# Altium schematic symbol library Schlib2.SchLib: 30 symbols
Pins are listed as number, name and electrical type; pins without a type are passive.

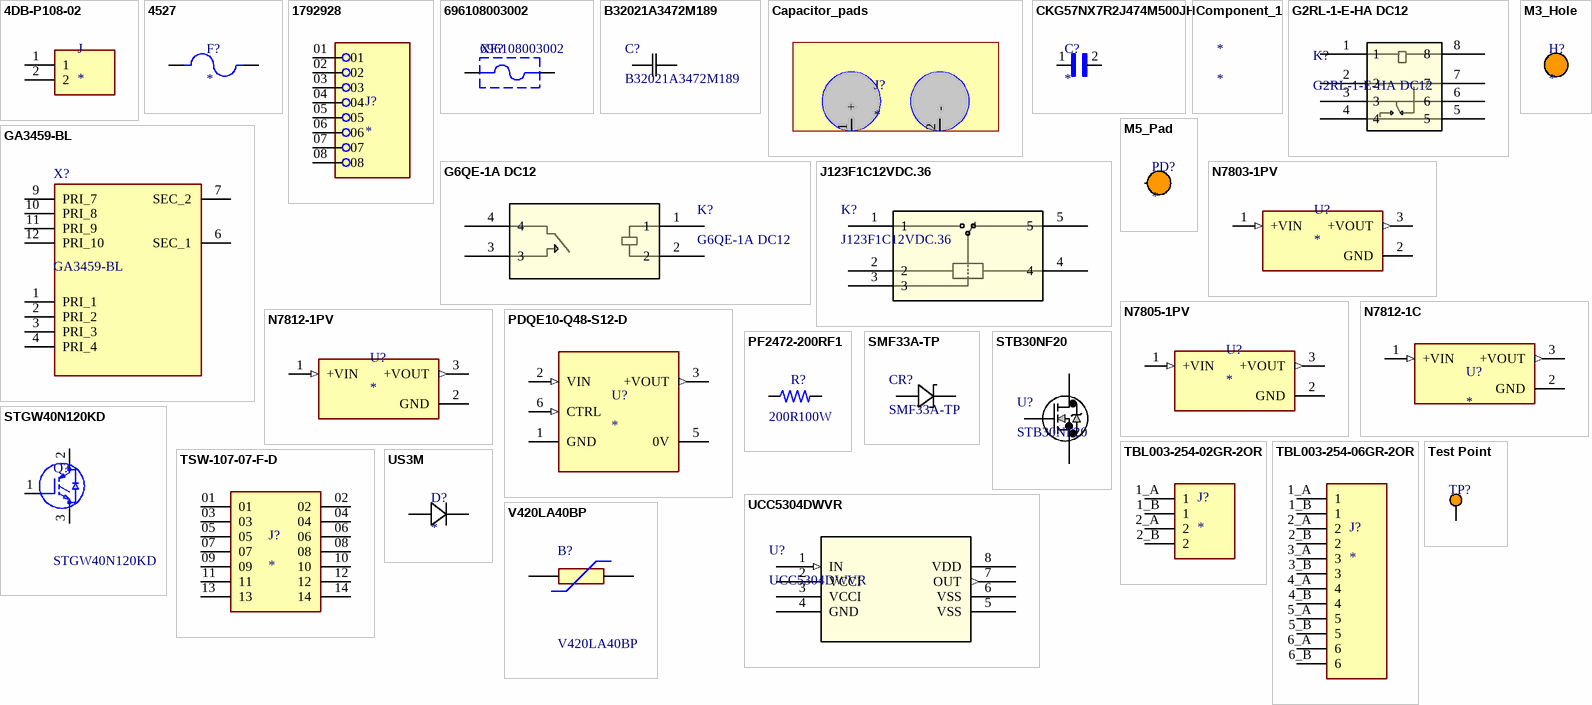
[diagram p0: symbols 4DB-P108-02 to V420LA40BP]

## 4DB-P108-02
designator J
Conn; Term Strip; Barrier; 2Pole; 8.26mmPitch; SnglRow; 22-12; Series 4DB; 20A; 150V; MP: 4DB-P108-02; MF: TE Connectivity; Value: *; TE_purchase_URL: https://www.te.com/usa-en/product-2-1437667-4.html?te_bu=Cor&te_type=disp&te_campaign=seda_glo_cor-seda-global-disp-prtnr-fy19-seda-model-bom-cta_sma-317_1&elqCampaignId=32493; Package: None; Price: None; Availability: Unavailable; SnapEDA_Link: https://www.snapeda.com/parts/4DB-P108-02/TE%20Connectivity%20AMP%20Connectors/view-part/2743721/?ref=snap
footprint TE_2-1437667-4
pins: 1, 2

## 4527
designator F?
5mm Low Profile Holder; MP: 4527; MF: Keystone; Price: None; Purchase-URL: https://pricing.snapeda.com/search/part/4527/?ref=eda; Package: None; Availability: In Stock; SnapEDA_Link: https://www.snapeda.com/parts/4527/Keystone+Electronics/view-part/?ref=snap; Value: *; Check_prices: https://www.snapeda.com/parts/4527/Keystone+Electronics/view-part/?ref=eda
footprint FUSE_4527
pins: 1, 2

## 1792928
designator J?
MP: 1792928; Package: None; Price: None; Value: *; Availability: Unavailable
footprint PHOENIX_1792928
pins: 01, 02, 03, 04, 05, 06, 07, 08

## 696108003002
designator XF?
NexarPartId: 56808807; Voltage Rating (AC): 250V; Fuse Current: 10A; REACH SVHC: Unknown; RoHS: Non-Compliant; Mount: Through Hole; Packaging: Box
footprint 696108003002 (FUSEHOLDER BLOCKS - PCB - CLIP COVER - THT)
pins: 1, 2

## B32021A3472M189
designator C?
No Description Available; Manufacturer_Name: TDK Epcos; Copyright: Copyright (C) 2025 Ultra Librarian. All rights reserved.; Manufacturer_Part_Number: B32021A3472M189
footprint CAP_5.0 X 11.0 X 13.0_EPC
pins: 1, 2

## Capacitor_pads
designator J?
footprint Capacitor_pads
pins: 1 +, 2 -

## CKG57NX7R2J474M500JH
designator C?
0.47ÂµF Â±20% 630V Ceramic Capacitor X7R Stacked SMD, 2 J-Lead; Value: 0.47uF; MF: TDK; MP: CKG57NX7R2J474M500JH; Price: None; Purchase-URL: https://pricing.snapeda.com/search/part/CKG57NX7R2J474M500JH/?ref=eda; Check_prices: https://www.snapeda.com/parts/CKG57NX7R2J474M500JH/TDK/view-part/?ref=eda; Package: 6050 TDK; Availability: In Stock; SnapEDA_Link: https://www.snapeda.com/parts/CKG57NX7R2J474M500JH/TDK/view-part/?ref=snap; voltage: 630V
footprint CAPC6050X550N
pins: 1, 2

## Component_1
designator *

## G2RL-1-E-HA DC12
designator K?
No Description Available; Manufacturer_Name: Omron; Copyright: Copyright (C) 2025 Ultra Librarian. All rights reserved.; Manufacturer_Part_Number: G2RL-1-E-HA DC12; RefDes: RefDes; Type: Type
footprint RELAY_G2RL-1-E DC5_OMR
pins: 1, 2, 3, 4, 5, 6, 7, 8

## G6QE-1A DC12
designator K?
No Description Available; Manufacturer_Name: Omron; Copyright: Copyright (C) 2025 Ultra Librarian. All rights reserved.; Manufacturer_Part_Number: G6QE-1A DC12; RefDes: RefDes; Type: Type
footprint RELAY_G6QE-1A_OMR
pins: 1, 2, 3, 4

## GA3459-BL
designator X?
Audio Transformers / Signal Transformers GA3459 for LT3751 500V 20A; Manufacturer_Name: COILCRAFT; Geometry.Height: 14mm; Mouser Part Number: 994-GA3459-BL; Mouser Price/Stock: https://www.mouser.co.uk/ProductDetail/Coilcraft/GA3459-BL?qs=ZYnrCdKdyecGrzi6ofbvIw%3D%3D; Manufacturer_Part_Number: GA3459-BL; Datasheet Link: https://www.coilcraft.com/pdfs/ga3459.pdf
footprint GA3459BL
pins: 1 PRI_1, 2 PRI_2, 3 PRI_3, 4 PRI_4, 6 SEC_1, 7 SEC_2, 9 PRI_7, 10 PRI_8, 11 PRI_9, 12 PRI_10

## J123F1C12VDC.36
designator K?
No Description Available; Manufacturer_Name: CIT Relay & Switch; Type: Power Relays; Copyright: Copyright (C) 2025 Ultra Librarian. All rights reserved.; Manufacturer_Part_Number: J123F1C12VDC.36; RefDes: RefDes
footprint RELAY5_J123F1C5VDC.36_CRS
pins: 1, 2, 3, 4, 5

## M3_Hole
designator H?
footprint M3_Hole

## M5_Pad
designator PD?
footprint M5_Pad
pins: 1

## N7803-1PV
designator U?
Dc-Dc Converter, 3.3V, 1A Rohs Compliant: Yes; Manufacturer: Mean Well; Manufacturer Part Number: N7803-1PV; Supplier: Mouser; Supplier Part Number: 709-N7803-1PV; RoHS: No; Category: Power Products; Stock: 21; Pricing: 1=3.94, 10=3.88, 50=3.88, 100=3.23, 1000=3.12, 10000=2.92 (USD); ComponentLink1URL: https://datasheet.octopart.com/N7803-1PV-Mean-Well-datasheet-155797355.pdf?src-supplier=TME; ComponentLink1Description: https://datasheet.octopart.com/N7803-1PV-Mean-Well-datasheet-155797355.pdf?src-supplier=TME
footprint CONV_TSR_1-2433
pins: 1 +VIN (in), 2 GND (power), 3 +VOUT (out)

## N7805-1PV
designator U?
Dc-Dc Converter, 5V, 1A Rohs Compliant: Yes; Manufacturer: Mean Well; Manufacturer Part Number: N7805-1PV; Supplier: Mouser; Supplier Part Number: 709-N7805-1PV; RoHS: No; Category: Power Products; Stock: 204; Pricing: 1=3.29, 10=3.23, 50=3.23, 100=3.19, 1000=2.98, 10000=2.66 (USD); ComponentLink1URL: https://datasheet.octopart.com/N7805-1PV-Mean-Well-datasheet-155797355.pdf?src-supplier=TME; ComponentLink1Description: https://datasheet.octopart.com/N7805-1PV-Mean-Well-datasheet-155797355.pdf?src-supplier=TME
footprint CONV_TSR_1-2433
pins: 1 +VIN (in), 2 GND (power), 3 +VOUT (out)

## N7812-1C
designator U?
DC-DC Converter, Switching Regulator, +-12Vout, 1A, Casing, N78 Series | MEAN WELL N7812-1C; Supplier: Mouser; Supplier Part Number: 709-N7812-1C; Manufacturer: Mean Well; Manufacturer Part Number: N7812-1C; RoHS: No; Stock: 2145; Pricing: 1=3.6, 10=3.6, 50=3.6, 100=3.6, 1000=3.18, 10000=3.08 (USD); ComponentLink1URL: https://datasheet.octopart.com/N7812-1C-Mean-Well-datasheet-155797355.pdf?src-supplier=TME; ComponentLink1Description: https://datasheet.octopart.com/N7812-1C-Mean-Well-datasheet-155797355.pdf?src-supplier=TME
pins: 1 +VIN (in), 2 GND (power), 3 +VOUT (out)

## N7812-1PV
designator U?
DC-DC Regulated Power Supply Module, 2 Output, 12W, Hybrid; Manufacturer: Mean Well; Manufacturer Part Number: N7812-1PV; Supplier: Mouser; Supplier Part Number: 709-N7812-1PV; RoHS: No; Stock: 1473; Pricing: 1=3.29, 10=3.23, 50=3.23, 100=3.23, 1000=3.18, 10000=2.86 (USD); Reach SVHC Compliant: Yes; RoHS Compliant: No; ComponentLink1URL: https://datasheet.octopart.com/N7812-1PV-Mean-Well-datasheet-155797355.pdf?src-supplier=TME; ComponentLink1Description: https://datasheet.octopart.com/N7812-1PV-Mean-Well-datasheet-155797355.pdf?src-supplier=TME
footprint CONV_TSR_1-2433
pins: 1 +VIN (in), 2 GND (power), 3 +VOUT (out)

## PDQE10-Q48-S12-D
designator U?
10 W, 4:1 Input Range, Single/Dual Regulated Output, 1500 Vdc Isolation, Dc-Dc Converter; MP: PDQE10-Q48-S12-D; MF: CUI Inc.; CUI_purchase_URL: https://www.cui.com/product/dc-dc-converters/isolated/pdqe10-d-series?utm_source=snapeda.com&utm_medium=referral&utm_campaign=snapedaBOM; Availability: In Stock; SnapEDA_Link: https://www.snapeda.com/parts/PDQE10-Q48-S12-D/CUI/view-part/?ref=snap; Price: None; Purchase-URL: https://pricing.snapeda.com/search/part/PDQE10-Q48-S12-D/?ref=eda; Check_prices: https://www.snapeda.com/parts/PDQE10-Q48-S12-D/CUI/view-part/?ref=eda; Package: DIP-6 CUI; Value: *
footprint CONV_PDQE10-Q48-S12-D
pins: 1 GND (power), 2 VIN (in), 3 +VOUT (out), 5 0V (power), 6 CTRL (in)

## PF2472-200RF1
designator R?  Power Rating: 100W  Resistance: 200R  (hidden comment: PF2472-200RF1)
Res Power Film 200 Ohm 1% 3W/100W ±50ppm/C TO-247 RDL Tube; Manufacturer: Riedon; Supplier: Digikey; Supplier Part Number: 696-1111-5-ND; Manufacturer Part Number: PF2472-200RF1; RoHS: Yes; Category: Through-Hole Resistors; Stock: 1066; Pricing: 1=9.1, 25=7.02, 50=6.6702, 100=6.3549, 500=5.7483, 1000=5.53603 (USD); ComponentLink1URL: https://datasheet.ciiva.com/18577/pf2470-18577726.pdf?src-supplier=Digikey; ComponentLink1Description: https://datasheet.ciiva.com/18577/pf2470-18577726.pdf?src-supplier=Digikey
footprint Power_Resistor
pins: 1, 2

## SMF33A-TP
designator CR?
No Description Available; Manufacturer_Name: MCC; Copyright: Copyright (C) 2025 Ultra Librarian. All rights reserved.; Manufacturer_Part_Number: SMF33A-TP
footprint SOD-123FL_MCC
pins: 1, 2

## STB30NF20
designator U?
N-channel 200 V, 0.065 Ohm, 30 A, D2PAK STripFET(TM) Power MOSFET; Manufacturer_Name: STMicroelectronics; Copyright: Copyright (C) 2025 Ultra Librarian. All rights reserved.; Manufacturer_Part_Number: STB30NF20; Datasheet: https://www.st.com/resource/en/datasheet/stp30nf20.pdf
footprint D2PAK_STM
pins: 1, 2, 3

## STGW40N120KD
designator Q?
STMicroelectronics STGW40N120KD IGBT, 80 A 1200 V, 3-Pin TO-247; Geometry.Height: 5.15mm; Mouser Part Number: *; Mouser Price/Stock: *; Manufacturer_Name: STMicroelectronics; Manufacturer_Part_Number: STGW40N120KD; Datasheet Link: http://www.st.com/web/en/resource/technical/document/datasheet/CD00224575.pdf
footprint TO545P515X1560X2445-3P
pins: 1 G, 2 C, 3 E

## TBL003-254-02GR-2OR
designator J?
1~24 Poles, Screwless, Horizontal, 2.54 Pitch, 24~20 (AWG), Terminal Block Connector; MF: Same Sky; MP: TBL003-254-02GR-2OR; SnapEDA_Link: https://www.snapeda.com/parts/TBL003-254-02GR-2OR/Same+Sky/view-part/?ref=snap; Package: None; Value: *; Check_prices: https://www.snapeda.com/parts/TBL003-254-02GR-2OR/Same+Sky/view-part/?ref=eda
footprint CUI_TBL003-254-02GR-2OR
pins: 1_A 1, 1_B 1, 2_A 2, 2_B 2

## TBL003-254-06GR-2OR
designator J?
1~24 Poles, Screwless, Horizontal, 2.54 Pitch, 24~20 (AWG), Terminal Block Connector; MF: Same Sky; MP: TBL003-254-06GR-2OR; SnapEDA_Link: https://www.snapeda.com/parts/TBL003-254-06GR-2OR/Same+Sky/view-part/?ref=snap; Package: None; Value: *; Check_prices: https://www.snapeda.com/parts/TBL003-254-06GR-2OR/Same+Sky/view-part/?ref=eda
footprint CUI_TBL003-254-06GR-2OR
pins: 1_A 1, 1_B 1, 2_A 2, 2_B 2, 3_A 3, 3_B 3, 4_A 4, 4_B 4, 5_A 5, 5_B 5, 6_A 6, 6_B 6

## Test Point
designator TP?  (value not drawn)
Just a Pad; Manufacturer: Keystone Electronics; Manufacturer Part Number: 5003; Plating: Silver; Body Material: PBT; Forward Current: 3A; Forward Voltage: 1.08V; Inside Diameter: 1.27mm; Outside Diameter: 2.54mm; Supplier: Digikey; Supplier Part Number: 36-5003-ND; RoHS: Yes; Category: Connectors; Stock: 130387; Pricing: 1=0.39, 10=0.293, 25=0.2624, 100=0.2223, 500=0.18446, 1000=0.1739, 2500=0.1542, 5000=0.14312 (USD); Mounting Technology: PCB,Through Hole; Pins: 1; Contact Material: Bronze; Contact Plating: Silver,Tin; Material: Nylon,Bronze,Silver; Color: Orange,White; Weight: 4.535924g; Package Quantity: 10; Packaging: Bulk; Series: THM; Termination: Through Hole; Length: 7.62mm; Width: 6.35mm; Height: 0.3inch; Radiation Hardening: No; Reach SVHC Compliant: No; Lead Free: Lead Free; RoHS Compliant: Yes; Flammability Rating: UL94 V-0; ComponentLink1URL: https://datasheet.ciiva.com/4598/5000-5004-4598618.pdf?src-supplier=Mouser; ComponentLink1Description: https://datasheet.ciiva.com/4598/5000-5004-4598618.pdf?src-supplier=Mouser; ComponentLink2URL: https://datasheet.ciiva.com/16885/70182825-16885788.pdf?src-supplier=Allied+Electronics; ComponentLink2Description: https://datasheet.ciiva.com/16885/70182825-16885788.pdf?src-supplier=Allied+Electronics; ComponentLink3URL: https://datasheet.ciiva.com/1454/1703983-1454826.pdf?src-supplier=Element14; ComponentLink3Description: https://datasheet.ciiva.com/1454/1703983-1454826.pdf?src-supplier=Element14; ComponentLink4URL: https://datasheet.ciiva.com/22631/1703983-22631103.pdf?src-supplier=Element14; ComponentLink4Description: https://datasheet.ciiva.com/22631/1703983-22631103.pdf?src-supplier=Element14
footprint Test_Pad
pins: 1 T

## TSW-107-07-F-D
designator J?
MF: Samtec; MP: TSW-107-07-F-D; Availability: Unavailable; Price: None; Package: None; Value: *
footprint SAMTEC_TSW-107-07-F-D
pins: 01, 02, 03, 04, 05, 06, 07, 08, 09, 10, 11, 12, 13, 14

## UCC5304DWVR
designator U?
5kVrms, 4A/6A single-channel isolated gate driver with 5V UVLO for GaNFETs & MOSFETs 8-SOIC -40 to 125; Manufacturer_Name: Texas Instruments; Copyright: Copyright (C) 2025 Ultra Librarian. All rights reserved.; Manufacturer_Part_Number: UCC5304DWVR; Datasheet: https://www.ti.com/lit/gpn/ucc5304; RefDes: RefDes; Type: Type
footprint SOIC8_DWV_TEX
pins: 1 IN (in), 2 VCCI (power), 3 VCCI (power), 4 GND (power), 5 VSS (power), 6 VSS (power), 7 OUT (out), 8 VDD (power)

## US3M
designator D?
Rectifier Diode, 1 Phase, 1 Element, 3A, 1000V V(RRM), Silicon, DO-214AB; Manufacturer: Diotec; Manufacturer Part Number: US3M; Package Body Material: Plastic; Application(s): GENERAL PURPOSE; Forward Voltage: 1.7V; Non-rep Pk Forward Current-Max: 100A; Number of Elements: 1; Rep Pk Reverse Voltage-Max: 1kV; Reverse Recovery Time-Max: 0.075us; Qualification Status: Not Qualified; Supplier: Mouser; Supplier Part Number: 637-US3M; RoHS: Yes; Category: Rectifier Diodes; Stock: 6011; Pricing: 1=0.4, 10=0.317, 50=0.317, 100=0.19, 1000=0.182, 10000=0.13 (USD); Pins: 2; Diode Element Material: SILICON; Package Shape: Rectangular; Terminal Finish: Tin; Min Operating Temperature: -50°C; Max Operating Temperature: 150°C; Diode Type: RECTIFIER; JESD-30 Code: R-PDSO-C2; Number of Phases: 1; Max Output current: 3A; Package Style: SMALL OUTLINEMeter; Surface Mount: Yes; Terminal Form: C BEND; Terminal Position: DUAL; JESD-609 Code: e3; Moisture Sensitivity Level: 1; Peak Reflow Temperature (Cel): 260°C; RoHS Compliant: Yes; Reach SVHC Compliant: No; JEDEC-95 Code: DO-214AB; ComponentLink1URL: https://datasheet.ciiva.com:443/pdfs/VipMasterIC/IC/DISE/DISE-S-A0001232619/DISE-S-A0001232619-1.pdf?src-supplier=IHS+Markit; ComponentLink1Description: https://datasheet.ciiva.com:443/pdfs/VipMasterIC/IC/DISE/DISE-S-A0001232619/DISE-S-A0001232619-1.pdf?src-supplier=IHS+Markit; ComponentLink2URL: https://datasheet.octopart.com/US3M-Diotec-datasheet-155920030.pdf?src-supplier=TME; ComponentLink2Description: https://datasheet.octopart.com/US3M-Diotec-datasheet-155920030.pdf?src-supplier=TME
footprint DO-214AB_SMC
pins: A, K

## V420LA40BP
designator B?
Littelfuse LA Series Variable Resistor 600pF 100A, Clamping 1060V, Varistor 610  720V; Geometry.Height: 28mm; Mouser Part Number: 576-V420LA40BP; Mouser Price/Stock: https://www.mouser.co.uk/ProductDetail/Littelfuse/V420LA40BP?qs=%252BvNVc1OwqXLcs1GzcX8aHQ%3D%3D; Manufacturer_Name: LITTELFUSE; Manufacturer_Part_Number: V420LA40BP; Datasheet Link: https://www.littelfuse.com/~/media/electronics/datasheets/varistors/littelfuse_varistor_la_datasheet.pdf.pdf
footprint V420LA40BP
pins: 1, 2